# Altium schematic symbol library Regulator_Switching.SchLib: 1279 symbols (part 8 of 14)
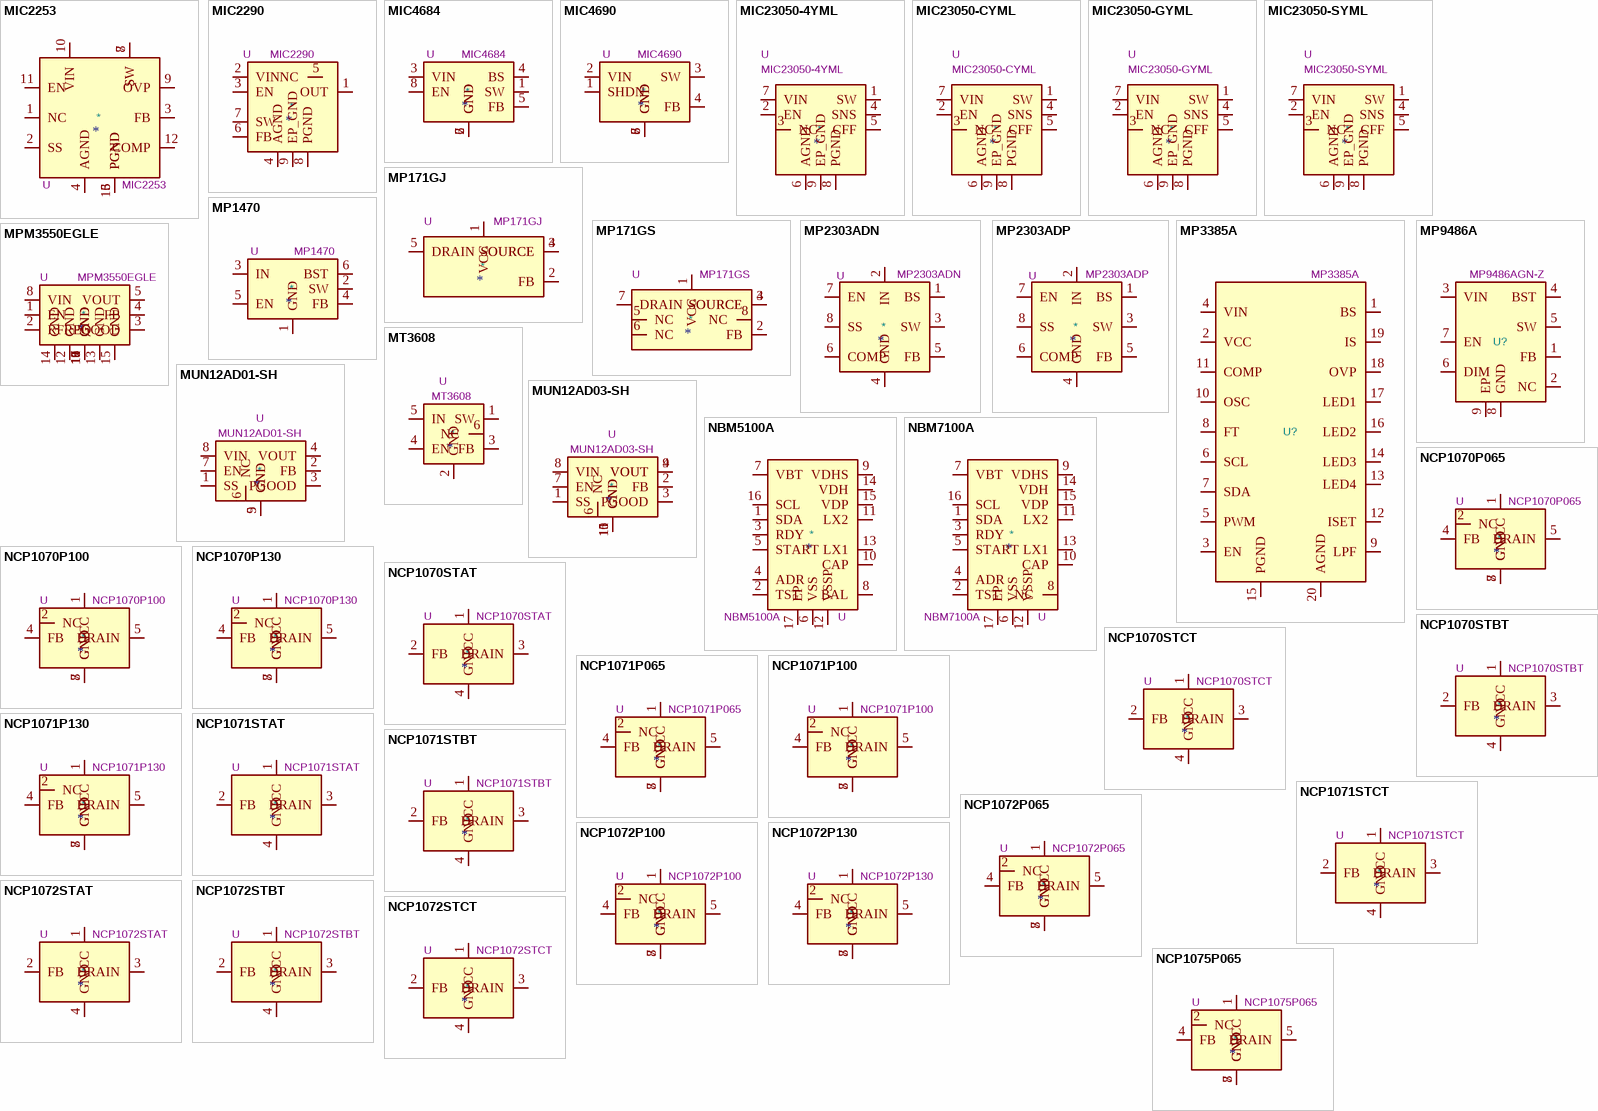
[diagram p39: symbols MIC2253 to NCP1075P065]

## NCP1072P130
designator *  value NCP1072P130  Reference: U
High-Voltage Switcher for Low Power Offline SMPS, 700V Vds, 19W/10W, 230V/85-265V, 130kHz, 11Ohm Rds(on), 250mA Ipk, DIP-7; ki_keywords: SMPS Converter; ki_fp_filters: DIP*N7*W7.62mm*; Footprint: Package_DIP:DIP-8-N7_W7.62mm; Datasheet: http://www.onsemi.com/pub/Collateral/NCP1070-D.PDF; Description_: High-Voltage Switcher for Low Power Offline SMPS, 700V Vds, 19W/10W, 230V/85-265V, 130kHz, 11Ohm Rds(on), 250mA Ipk, DIP-7
pins: 1 VCC, 2 NC, 3 GND, 4 FB, 5 DRAIN, 7 GND, 8 GND

## NCP1072STAT
designator *  value NCP1072STAT  Reference: U
High-Voltage Switcher for Low Power Offline SMPS, 700V Vds, 19W/10W, 230V/85-265V, 65kHz, 11Ohm Rds(on), 250mA Ipk, SOT-223; ki_keywords: SMPS Converter; ki_fp_filters: SOT?223*; Footprint: Package_TO_SOT_SMD:SOT-223; Datasheet: http://www.onsemi.com/pub/Collateral/NCP1070-D.PDF; Description_: High-Voltage Switcher for Low Power Offline SMPS, 700V Vds, 19W/10W, 230V/85-265V, 65kHz, 11Ohm Rds(on), 250mA Ipk, SOT-223
pins: 1 VCC, 2 FB, 3 DRAIN, 4 GND

## NCP1072STBT
designator *  value NCP1072STBT  Reference: U
High-Voltage Switcher for Low Power Offline SMPS, 700V Vds, 19W/10W, 230V/85-265V, 100kHz, 11Ohm Rds(on), 250mA Ipk, SOT-223; ki_keywords: SMPS Converter; ki_fp_filters: SOT?223*; Footprint: Package_TO_SOT_SMD:SOT-223; Datasheet: http://www.onsemi.com/pub/Collateral/NCP1070-D.PDF; Description_: High-Voltage Switcher for Low Power Offline SMPS, 700V Vds, 19W/10W, 230V/85-265V, 100kHz, 11Ohm Rds(on), 250mA Ipk, SOT-223
pins: 1 VCC, 2 FB, 3 DRAIN, 4 GND

## NCP1072STCT
designator *  value NCP1072STCT  Reference: U
High-Voltage Switcher for Low Power Offline SMPS, 700V Vds, 19W/10W, 230V/85-265V, 130kHz, 11Ohm Rds(on), 250mA Ipk, SOT-223; ki_keywords: SMPS Converter; ki_fp_filters: SOT?223*; Footprint: Package_TO_SOT_SMD:SOT-223; Datasheet: http://www.onsemi.com/pub/Collateral/NCP1070-D.PDF; Description_: High-Voltage Switcher for Low Power Offline SMPS, 700V Vds, 19W/10W, 230V/85-265V, 130kHz, 11Ohm Rds(on), 250mA Ipk, SOT-223
pins: 1 VCC, 2 FB, 3 DRAIN, 4 GND

## NCP1075P065
designator *  value NCP1075P065  Reference: U
High-Voltage Switcher for Low Power Offline SMPS, 700V Vds, 19W/10W, 230V/85-265V, 65kHz, 11Ohm Rds(on), 450mA Ipk, DIP-7; ki_keywords: SMPS Converter; ki_fp_filters: DIP*N7*W7.62mm*; Footprint: Package_DIP:DIP-8-N7_W7.62mm; Datasheet: http://www.onsemi.com/pub/Collateral/NCP1070-D.PDF; Description_: High-Voltage Switcher for Low Power Offline SMPS, 700V Vds, 19W/10W, 230V/85-265V, 65kHz, 11Ohm Rds(on), 450mA Ipk, DIP-7
pins: 1 VCC, 2 NC, 3 GND, 4 FB, 5 DRAIN, 7 GND, 8 GND

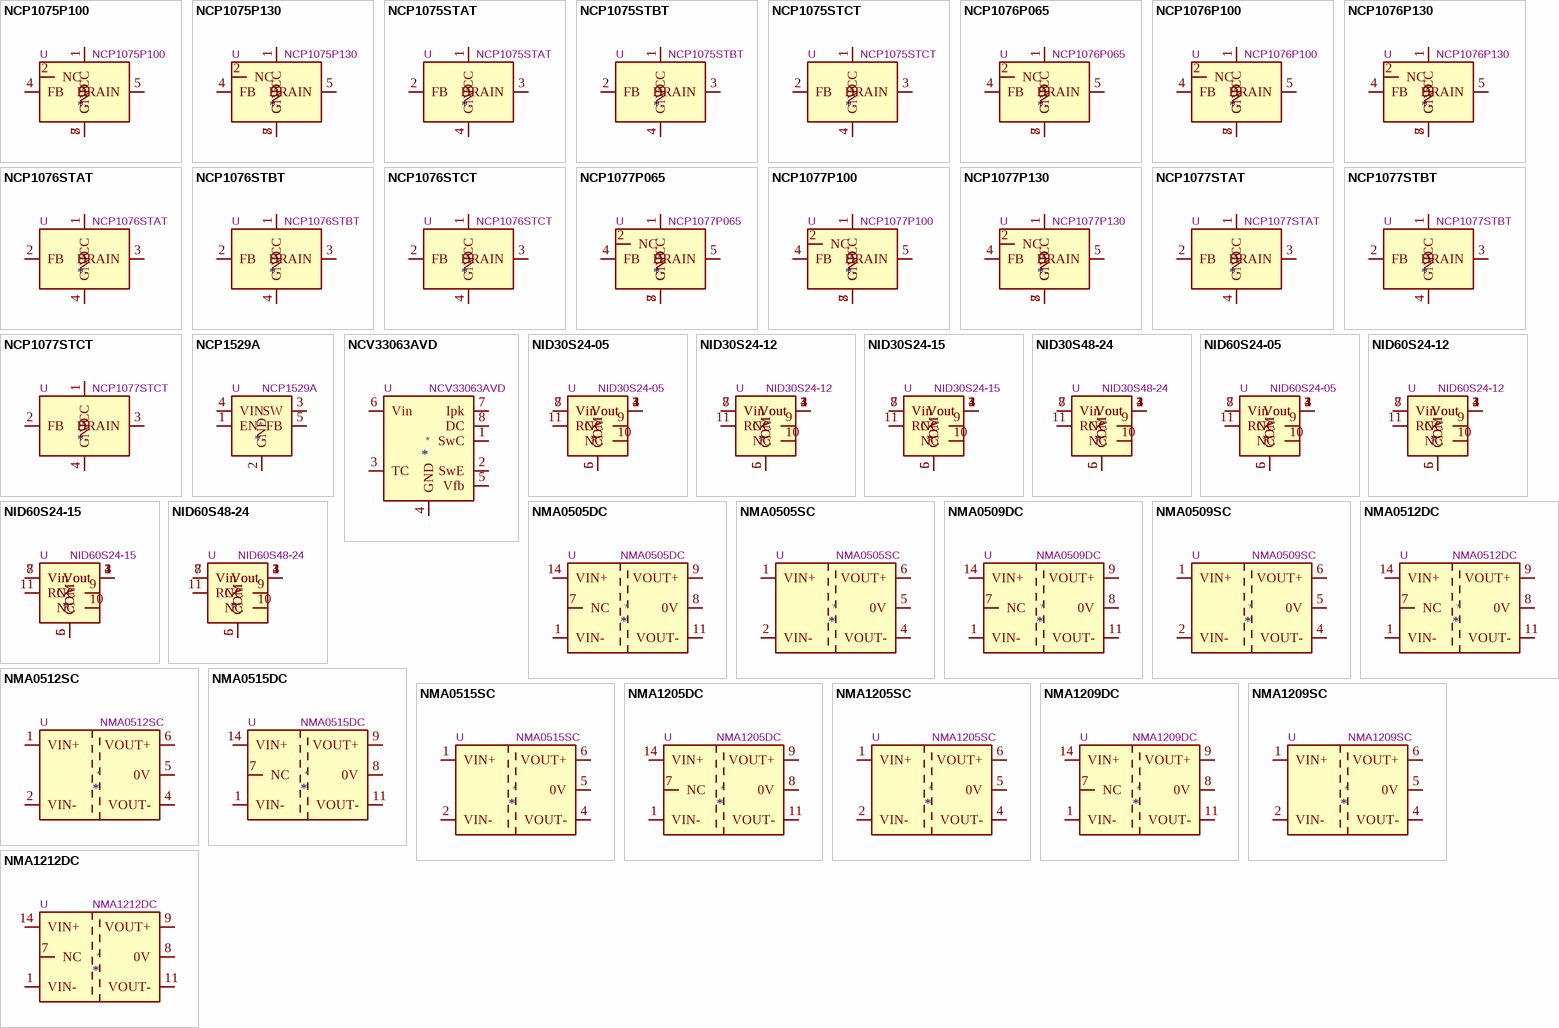
[diagram p17: symbols NCP1075P100 to NMA1212DC]

## NCP1075P100
designator *  value NCP1075P100  Reference: U
High-Voltage Switcher for Low Power Offline SMPS, 700V Vds, 19W/10W, 230V/85-265V, 100kHz, 11Ohm Rds(on), 450mA Ipk, DIP-7; ki_keywords: SMPS Converter; ki_fp_filters: DIP*N7*W7.62mm*; Footprint: Package_DIP:DIP-8-N7_W7.62mm; Datasheet: http://www.onsemi.com/pub/Collateral/NCP1070-D.PDF; Description_: High-Voltage Switcher for Low Power Offline SMPS, 700V Vds, 19W/10W, 230V/85-265V, 100kHz, 11Ohm Rds(on), 450mA Ipk, DIP-7
pins: 1 VCC, 2 NC, 3 GND, 4 FB, 5 DRAIN, 7 GND, 8 GND

## NCP1075P130
designator *  value NCP1075P130  Reference: U
High-Voltage Switcher for Low Power Offline SMPS, 700V Vds, 19W/10W, 230V/85-265V, 130kHz, 11Ohm Rds(on), 450mA Ipk, DIP-7; ki_keywords: SMPS Converter; ki_fp_filters: DIP*N7*W7.62mm*; Footprint: Package_DIP:DIP-8-N7_W7.62mm; Datasheet: http://www.onsemi.com/pub/Collateral/NCP1070-D.PDF; Description_: High-Voltage Switcher for Low Power Offline SMPS, 700V Vds, 19W/10W, 230V/85-265V, 130kHz, 11Ohm Rds(on), 450mA Ipk, DIP-7
pins: 1 VCC, 2 NC, 3 GND, 4 FB, 5 DRAIN, 7 GND, 8 GND

## NCP1075STAT
designator *  value NCP1075STAT  Reference: U
High-Voltage Switcher for Low Power Offline SMPS, 700V Vds, 19W/10W, 230V/85-265V, 65kHz, 11Ohm Rds(on), 450mA Ipk, SOT-223; ki_keywords: SMPS Converter; ki_fp_filters: SOT?223*; Footprint: Package_TO_SOT_SMD:SOT-223; Datasheet: http://www.onsemi.com/pub/Collateral/NCP1070-D.PDF; Description_: High-Voltage Switcher for Low Power Offline SMPS, 700V Vds, 19W/10W, 230V/85-265V, 65kHz, 11Ohm Rds(on), 450mA Ipk, SOT-223
pins: 1 VCC, 2 FB, 3 DRAIN, 4 GND

## NCP1075STBT
designator *  value NCP1075STBT  Reference: U
High-Voltage Switcher for Low Power Offline SMPS, 700V Vds, 19W/10W, 230V/85-265V, 100kHz, 11Ohm Rds(on), 450mA Ipk, SOT-223; ki_keywords: SMPS Converter; ki_fp_filters: SOT?223*; Footprint: Package_TO_SOT_SMD:SOT-223; Datasheet: http://www.onsemi.com/pub/Collateral/NCP1070-D.PDF; Description_: High-Voltage Switcher for Low Power Offline SMPS, 700V Vds, 19W/10W, 230V/85-265V, 100kHz, 11Ohm Rds(on), 450mA Ipk, SOT-223
pins: 1 VCC, 2 FB, 3 DRAIN, 4 GND

## NCP1075STCT
designator *  value NCP1075STCT  Reference: U
High-Voltage Switcher for Low Power Offline SMPS, 700V Vds, 19W/10W, 230V/85-265V, 130kHz, 11Ohm Rds(on), 450mA Ipk, SOT-223; ki_keywords: SMPS Converter; ki_fp_filters: SOT?223*; Footprint: Package_TO_SOT_SMD:SOT-223; Datasheet: http://www.onsemi.com/pub/Collateral/NCP1070-D.PDF; Description_: High-Voltage Switcher for Low Power Offline SMPS, 700V Vds, 19W/10W, 230V/85-265V, 130kHz, 11Ohm Rds(on), 450mA Ipk, SOT-223
pins: 1 VCC, 2 FB, 3 DRAIN, 4 GND

## NCP1076P065
designator *  value NCP1076P065  Reference: U
High-Voltage Switcher for Low Power Offline SMPS, 700V Vds, 25W/15W, 230V/85-265V, 65kHz, 4.7Ohm Rds(on), 650mA Ipk, DIP-7; ki_keywords: SMPS Converter; ki_fp_filters: DIP*N7*W7.62mm*; Footprint: Package_DIP:DIP-8-N7_W7.62mm; Datasheet: http://www.onsemi.com/pub/Collateral/NCP1070-D.PDF; Description_: High-Voltage Switcher for Low Power Offline SMPS, 700V Vds, 25W/15W, 230V/85-265V, 65kHz, 4.7Ohm Rds(on), 650mA Ipk, DIP-7
pins: 1 VCC, 2 NC, 3 GND, 4 FB, 5 DRAIN, 7 GND, 8 GND

## NCP1076P100
designator *  value NCP1076P100  Reference: U
High-Voltage Switcher for Low Power Offline SMPS, 700V Vds, 25W/15W, 230V/85-265V, 100kHz, 4.7Ohm Rds(on), 650mA Ipk, DIP-7; ki_keywords: SMPS Converter; ki_fp_filters: DIP*N7*W7.62mm*; Footprint: Package_DIP:DIP-8-N7_W7.62mm; Datasheet: http://www.onsemi.com/pub/Collateral/NCP1070-D.PDF; Description_: High-Voltage Switcher for Low Power Offline SMPS, 700V Vds, 25W/15W, 230V/85-265V, 100kHz, 4.7Ohm Rds(on), 650mA Ipk, DIP-7
pins: 1 VCC, 2 NC, 3 GND, 4 FB, 5 DRAIN, 7 GND, 8 GND

## NCP1076P130
designator *  value NCP1076P130  Reference: U
High-Voltage Switcher for Low Power Offline SMPS, 700V Vds, 25W/15W, 230V/85-265V, 130kHz, 4.7Ohm Rds(on), 650mA Ipk, DIP-7; ki_keywords: SMPS Converter; ki_fp_filters: DIP*N7*W7.62mm*; Footprint: Package_DIP:DIP-8-N7_W7.62mm; Datasheet: http://www.onsemi.com/pub/Collateral/NCP1070-D.PDF; Description_: High-Voltage Switcher for Low Power Offline SMPS, 700V Vds, 25W/15W, 230V/85-265V, 130kHz, 4.7Ohm Rds(on), 650mA Ipk, DIP-7
pins: 1 VCC, 2 NC, 3 GND, 4 FB, 5 DRAIN, 7 GND, 8 GND

## NCP1076STAT
designator *  value NCP1076STAT  Reference: U
High-Voltage Switcher for Low Power Offline SMPS, 700V Vds, 25W/15W, 230V/85-265V, 65kHz, 4.7Ohm Rds(on), 650mA Ipk, SOT-223; ki_keywords: SMPS Converter; ki_fp_filters: SOT?223*; Footprint: Package_TO_SOT_SMD:SOT-223; Datasheet: http://www.onsemi.com/pub/Collateral/NCP1070-D.PDF; Description_: High-Voltage Switcher for Low Power Offline SMPS, 700V Vds, 25W/15W, 230V/85-265V, 65kHz, 4.7Ohm Rds(on), 650mA Ipk, SOT-223
pins: 1 VCC, 2 FB, 3 DRAIN, 4 GND

## NCP1076STBT
designator *  value NCP1076STBT  Reference: U
High-Voltage Switcher for Low Power Offline SMPS, 700V Vds, 25W/15W, 230V/85-265V, 100kHz, 4.7Ohm Rds(on), 650mA Ipk, SOT-223; ki_keywords: SMPS Converter; ki_fp_filters: SOT?223*; Footprint: Package_TO_SOT_SMD:SOT-223; Datasheet: http://www.onsemi.com/pub/Collateral/NCP1070-D.PDF; Description_: High-Voltage Switcher for Low Power Offline SMPS, 700V Vds, 25W/15W, 230V/85-265V, 100kHz, 4.7Ohm Rds(on), 650mA Ipk, SOT-223
pins: 1 VCC, 2 FB, 3 DRAIN, 4 GND

## NCP1076STCT
designator *  value NCP1076STCT  Reference: U
High-Voltage Switcher for Low Power Offline SMPS, 700V Vds, 25W/15W, 230V/85-265V, 130kHz, 4.7Ohm Rds(on), 650mA Ipk, SOT-223; ki_keywords: SMPS Converter; ki_fp_filters: SOT?223*; Footprint: Package_TO_SOT_SMD:SOT-223; Datasheet: http://www.onsemi.com/pub/Collateral/NCP1070-D.PDF; Description_: High-Voltage Switcher for Low Power Offline SMPS, 700V Vds, 25W/15W, 230V/85-265V, 130kHz, 4.7Ohm Rds(on), 650mA Ipk, SOT-223
pins: 1 VCC, 2 FB, 3 DRAIN, 4 GND

## NCP1077P065
designator *  value NCP1077P065  Reference: U
High-Voltage Switcher for Low Power Offline SMPS, 700V Vds, 25W/15W, 230V/85-265V, 65kHz, 4.7Ohm Rds(on), 800mA Ipk, DIP-7; ki_keywords: SMPS Converter; ki_fp_filters: DIP*N7*W7.62mm*; Footprint: Package_DIP:DIP-8-N7_W7.62mm; Datasheet: http://www.onsemi.com/pub/Collateral/NCP1070-D.PDF; Description_: High-Voltage Switcher for Low Power Offline SMPS, 700V Vds, 25W/15W, 230V/85-265V, 65kHz, 4.7Ohm Rds(on), 800mA Ipk, DIP-7
pins: 1 VCC, 2 NC, 3 GND, 4 FB, 5 DRAIN, 7 GND, 8 GND

## NCP1077P100
designator *  value NCP1077P100  Reference: U
High-Voltage Switcher for Low Power Offline SMPS, 700V Vds, 25W/15W, 230V/85-265V, 100kHz, 4.7Ohm Rds(on), 800mA Ipk, DIP-7; ki_keywords: SMPS Converter; ki_fp_filters: DIP*N7*W7.62mm*; Footprint: Package_DIP:DIP-8-N7_W7.62mm; Datasheet: http://www.onsemi.com/pub/Collateral/NCP1070-D.PDF; Description_: High-Voltage Switcher for Low Power Offline SMPS, 700V Vds, 25W/15W, 230V/85-265V, 100kHz, 4.7Ohm Rds(on), 800mA Ipk, DIP-7
pins: 1 VCC, 2 NC, 3 GND, 4 FB, 5 DRAIN, 7 GND, 8 GND

## NCP1077P130
designator *  value NCP1077P130  Reference: U
High-Voltage Switcher for Low Power Offline SMPS, 700V Vds, 25W/15W, 230V/85-265V, 130kHz, 4.7Ohm Rds(on), 800mA Ipk, DIP-7; ki_keywords: SMPS Converter; ki_fp_filters: DIP*N7*W7.62mm*; Footprint: Package_DIP:DIP-8-N7_W7.62mm; Datasheet: http://www.onsemi.com/pub/Collateral/NCP1070-D.PDF; Description_: High-Voltage Switcher for Low Power Offline SMPS, 700V Vds, 25W/15W, 230V/85-265V, 130kHz, 4.7Ohm Rds(on), 800mA Ipk, DIP-7
pins: 1 VCC, 2 NC, 3 GND, 4 FB, 5 DRAIN, 7 GND, 8 GND

## NCP1077STAT
designator *  value NCP1077STAT  Reference: U
High-Voltage Switcher for Low Power Offline SMPS, 700V Vds, 25W/15W, 230V/85-265V, 65kHz, 4.7Ohm Rds(on), 800mA Ipk, SOT-223; ki_keywords: SMPS Converter; ki_fp_filters: SOT?223*; Footprint: Package_TO_SOT_SMD:SOT-223; Datasheet: http://www.onsemi.com/pub/Collateral/NCP1070-D.PDF; Description_: High-Voltage Switcher for Low Power Offline SMPS, 700V Vds, 25W/15W, 230V/85-265V, 65kHz, 4.7Ohm Rds(on), 800mA Ipk, SOT-223
pins: 1 VCC, 2 FB, 3 DRAIN, 4 GND

## NCP1077STBT
designator *  value NCP1077STBT  Reference: U
High-Voltage Switcher for Low Power Offline SMPS, 700V Vds, 25W/15W, 230V/85-265V, 100kHz, 4.7Ohm Rds(on), 800mA Ipk, SOT-223; ki_keywords: SMPS Converter; ki_fp_filters: SOT?223*; Footprint: Package_TO_SOT_SMD:SOT-223; Datasheet: http://www.onsemi.com/pub/Collateral/NCP1070-D.PDF; Description_: High-Voltage Switcher for Low Power Offline SMPS, 700V Vds, 25W/15W, 230V/85-265V, 100kHz, 4.7Ohm Rds(on), 800mA Ipk, SOT-223
pins: 1 VCC, 2 FB, 3 DRAIN, 4 GND

## NCP1077STCT
designator *  value NCP1077STCT  Reference: U
High-Voltage Switcher for Low Power Offline SMPS, 700V Vds, 25W/15W, 230V/85-265V, 130kHz, 4.7Ohm Rds(on), 800mA Ipk, SOT-223; ki_keywords: SMPS Converter; ki_fp_filters: SOT?223*; Footprint: Package_TO_SOT_SMD:SOT-223; Datasheet: http://www.onsemi.com/pub/Collateral/NCP1070-D.PDF; Description_: High-Voltage Switcher for Low Power Offline SMPS, 700V Vds, 25W/15W, 230V/85-265V, 130kHz, 4.7Ohm Rds(on), 800mA Ipk, SOT-223
pins: 1 VCC, 2 FB, 3 DRAIN, 4 GND

## NCP1529A
designator *  value NCP1529A  Reference: U
1.7MHz, 1A, High Efficiency, Low Ripple, Adjustable Output Voltage Step-down Converter, SOT-23-5; ki_keywords: Step-Down Buck DC-DC Regulator Adjustable; ki_fp_filters: SOT?23*; Footprint: Package_TO_SOT_SMD:SOT-23-5; Datasheet: https://www.onsemi.com/pub/Collateral/NCP1529-D.PDF; Description_: 1.7MHz, 1A, High Efficiency, Low Ripple, Adjustable Output Voltage Step-down Converter, SOT-23-5
pins: 1 EN, 2 GND, 3 SW, 4 VIN, 5 FB

## NCV33063AVD
designator *  value NCV33063AVD  Reference: U
1.5A, step-up/down/inverting switching regulator, 3-40V Vin, 100kHz, SO-8; ki_keywords: smps buck boost inverting; ki_fp_filters: SOIC*3.9x4.9mm*P1.27mm*; Footprint: Package_SO:SOIC-8_3.9x4.9mm_P1.27mm; Datasheet: http://www.onsemi.com/pub_link/Collateral/MC34063A-D.PDF; Description_: 1.5A, step-up/down/inverting switching regulator, 3-40V Vin, 100kHz, SO-8
pins: 1 SwC, 2 SwE, 3 TC, 4 GND, 5 Vfb, 6 Vin, 7 Ipk, 8 DC

## NID30S24-05
designator *  value NID30S24-05  Reference: U
2.5A/12.5W Step Down Converter Module, fixed 5V Output Voltage, 250kHz, 20-53V Input Voltage; ki_keywords: Step-Down Converter Module DC/DC; ki_fp_filters: Converter*DCDC*MeanWell*NID30*THT*; Footprint: Converter_DCDC:Converter_DCDC_MeanWell_NID30_THT; Datasheet: http://www.meanwell.com/webapp/product/search.aspx?prod=nid30; Description_: 2.5A/12.5W Step Down Converter Module, fixed 5V Output Voltage, 250kHz, 20-53V Input Voltage
pins: 1 Vout, 2 Vout, 3 Vout, 4 Vout, 5 COM, 6 COM, 7 Vin, 8 Vin, 9 NC, 10 NC, 11 RC

## NID30S24-12
designator *  value NID30S24-12  Reference: U
2.5A/30W Step Down Converter Module, fixed 12V Output Voltage, 250kHz, 20-53V Input Voltage; ki_keywords: Step-Down Converter Module DC/DC; ki_fp_filters: Converter*DCDC*MeanWell*NID30*THT*; Footprint: Converter_DCDC:Converter_DCDC_MeanWell_NID30_THT; Datasheet: http://www.meanwell.com/webapp/product/search.aspx?prod=nid30; Description_: 2.5A/30W Step Down Converter Module, fixed 12V Output Voltage, 250kHz, 20-53V Input Voltage
pins: 1 Vout, 2 Vout, 3 Vout, 4 Vout, 5 COM, 6 COM, 7 Vin, 8 Vin, 9 NC, 10 NC, 11 RC

## NID30S24-15
designator *  value NID30S24-15  Reference: U
2.5A/30W Step Down Converter Module, fixed 15V Output Voltage, 250kHz, 20-53V Input Voltage; ki_keywords: Step-Down Converter Module DC/DC; ki_fp_filters: Converter*DCDC*MeanWell*NID30*THT*; Footprint: Converter_DCDC:Converter_DCDC_MeanWell_NID30_THT; Datasheet: http://www.meanwell.com/webapp/product/search.aspx?prod=nid30; Description_: 2.5A/30W Step Down Converter Module, fixed 15V Output Voltage, 250kHz, 20-53V Input Voltage
pins: 1 Vout, 2 Vout, 3 Vout, 4 Vout, 5 COM, 6 COM, 7 Vin, 8 Vin, 9 NC, 10 NC, 11 RC

## NID30S48-24
designator *  value NID30S48-24  Reference: U
1.25A/30W Step Down Converter Module, fixed 24V Output Voltage, 250kHz, 30-53V Input Voltage; ki_keywords: Step-Down Converter Module DC/DC; ki_fp_filters: Converter*DCDC*MeanWell*NID30*THT*; Footprint: Converter_DCDC:Converter_DCDC_MeanWell_NID30_THT; Datasheet: http://www.meanwell.com/webapp/product/search.aspx?prod=nid30; Description_: 1.25A/30W Step Down Converter Module, fixed 24V Output Voltage, 250kHz, 30-53V Input Voltage
pins: 1 Vout, 2 Vout, 3 Vout, 4 Vout, 5 COM, 6 COM, 7 Vin, 8 Vin, 9 NC, 10 NC, 11 RC

## NID60S24-05
designator *  value NID60S24-05  Reference: U
4A/20W Step Down Converter Module, fixed 5V Output Voltage, 250kHz, 20-53V Input Voltage; ki_keywords: Step-Down Converter Module DC/DC; ki_fp_filters: Converter*DCDC*MeanWell*NID60*; Footprint: Converter_DCDC:Converter_DCDC_MeanWell_NID60_THT; Datasheet: http://www.meanwell.com/78ddf876-a86c-4a52-8a41-4ee24dd9913d; Description_: 4A/20W Step Down Converter Module, fixed 5V Output Voltage, 250kHz, 20-53V Input Voltage
pins: 1 Vout, 2 Vout, 3 Vout, 4 Vout, 5 COM, 6 COM, 7 Vin, 8 Vin, 9 NC, 10 NC, 11 RC

## NID60S24-12
designator *  value NID60S24-12  Reference: U
4A/48W Step Down Converter Module, fixed 12V Output Voltage, 250kHz, 20-53V Input Voltage; ki_keywords: Step-Down Converter Module DC/DC; ki_fp_filters: Converter*DCDC*MeanWell*NID60*; Footprint: Converter_DCDC:Converter_DCDC_MeanWell_NID60_THT; Datasheet: http://www.meanwell.com/78ddf876-a86c-4a52-8a41-4ee24dd9913d; Description_: 4A/48W Step Down Converter Module, fixed 12V Output Voltage, 250kHz, 20-53V Input Voltage
pins: 1 Vout, 2 Vout, 3 Vout, 4 Vout, 5 COM, 6 COM, 7 Vin, 8 Vin, 9 NC, 10 NC, 11 RC

## NID60S24-15
designator *  value NID60S24-15  Reference: U
4A/60W Step Down Converter Module, fixed 15V Output Voltage, 250kHz, 20-53V Input Voltage; ki_keywords: Step-Down Converter Module DC/DC; ki_fp_filters: Converter*DCDC*MeanWell*NID60*; Footprint: Converter_DCDC:Converter_DCDC_MeanWell_NID60_THT; Datasheet: http://www.meanwell.com/78ddf876-a86c-4a52-8a41-4ee24dd9913d; Description_: 4A/60W Step Down Converter Module, fixed 15V Output Voltage, 250kHz, 20-53V Input Voltage
pins: 1 Vout, 2 Vout, 3 Vout, 4 Vout, 5 COM, 6 COM, 7 Vin, 8 Vin, 9 NC, 10 NC, 11 RC

## NID60S48-24
designator *  value NID60S48-24  Reference: U
2.5A/60W Step Down Converter Module, fixed 24V Output Voltage, 250kHz, 30-53V Input Voltage; ki_keywords: Step-Down Converter Module DC/DC; ki_fp_filters: Converter*DCDC*MeanWell*NID60*; Footprint: Converter_DCDC:Converter_DCDC_MeanWell_NID60_THT; Datasheet: http://www.meanwell.com/78ddf876-a86c-4a52-8a41-4ee24dd9913d; Description_: 2.5A/60W Step Down Converter Module, fixed 24V Output Voltage, 250kHz, 30-53V Input Voltage
pins: 1 Vout, 2 Vout, 3 Vout, 4 Vout, 5 COM, 6 COM, 7 Vin, 8 Vin, 9 NC, 10 NC, 11 RC

## NMA0505DC
designator *  value NMA0505DC  Reference: U
±100mA Isolated 1W Dual output DC/DC Converter, 5V Input Voltage, ±5V Output Voltage, DIP Package; ki_keywords: Murata isolated isolation dc-dc converter; ki_fp_filters: Converter*DCDC*Murata*NMAxxxxDC*; Footprint: Converter_DCDC:Converter_DCDC_Murata_NMAxxxxDC_THT; Datasheet: http://power.murata.com/data/power/ncl/kdc_nma.pdf; Description_: ±100mA Isolated 1W Dual output DC/DC Converter, 5V Input Voltage, ±5V Output Voltage, DIP Package
pins: 1 VIN-, 7 NC, 8 0V, 9 VOUT+, 11 VOUT-, 14 VIN+

## NMA0505SC
designator *  value NMA0505SC  Reference: U
±100mA Isolated 1W Dual output DC/DC Converter Module, 5V Input Voltage, ±5V Output Voltage, SIP3; ki_keywords: Murata isolated isolation dc-dc converter; ki_fp_filters: Converter*DCDC*Murata*NMAxxxxSC*; Footprint: Converter_DCDC:Converter_DCDC_Murata_NMAxxxxSC_THT; Datasheet: http://power.murata.com/data/power/ncl/kdc_nma.pdf; Description_: ±100mA Isolated 1W Dual output DC/DC Converter Module, 5V Input Voltage, ±5V Output Voltage, SIP3
pins: 1 VIN+, 2 VIN-, 4 VOUT-, 5 0V, 6 VOUT+

## NMA0509DC
designator *  value NMA0509DC  Reference: U
±55mA Isolated 1W Dual output DC/DC Converter Module, 5V Input Voltage, ±9V Output Voltage, DIP Package; ki_keywords: Murata isolated isolation dc-dc converter; ki_fp_filters: Converter*DCDC*Murata*NMAxxxxDC*; Footprint: Converter_DCDC:Converter_DCDC_Murata_NMAxxxxDC_THT; Datasheet: http://power.murata.com/data/power/ncl/kdc_nma.pdf; Description_: ±55mA Isolated 1W Dual output DC/DC Converter Module, 5V Input Voltage, ±9V Output Voltage, DIP Package
pins: 1 VIN-, 7 NC, 8 0V, 9 VOUT+, 11 VOUT-, 14 VIN+

## NMA0509SC
designator *  value NMA0509SC  Reference: U
±55mA Isolated 1W Dual output DC/DC Converter Module, 5V Input Voltage, ±9V Output Voltage, SIP3; ki_keywords: Murata isolated isolation dc-dc converter; ki_fp_filters: Converter*DCDC*Murata*NMAxxxxSC*; Footprint: Converter_DCDC:Converter_DCDC_Murata_NMAxxxxSC_THT; Datasheet: http://power.murata.com/data/power/ncl/kdc_nma.pdf; Description_: ±55mA Isolated 1W Dual output DC/DC Converter Module, 5V Input Voltage, ±9V Output Voltage, SIP3
pins: 1 VIN+, 2 VIN-, 4 VOUT-, 5 0V, 6 VOUT+

## NMA0512DC
designator *  value NMA0512DC  Reference: U
±42mA Isolated 1W Dual output DC/DC Converter Module, 5V Input Voltage, ±12V Output Voltage, DIP Package; ki_keywords: Murata isolated isolation dc-dc converter; ki_fp_filters: Converter*DCDC*Murata*NMAxxxxDC*; Footprint: Converter_DCDC:Converter_DCDC_Murata_NMAxxxxDC_THT; Datasheet: http://power.murata.com/data/power/ncl/kdc_nma.pdf; Description_: ±42mA Isolated 1W Dual output DC/DC Converter Module, 5V Input Voltage, ±12V Output Voltage, DIP Package
pins: 1 VIN-, 7 NC, 8 0V, 9 VOUT+, 11 VOUT-, 14 VIN+

## NMA0512SC
designator *  value NMA0512SC  Reference: U
±42mA Isolated 1W Dual output DC/DC Converter Module, 5V Input Voltage, ±12V Output Voltage, SIP3; ki_keywords: Murata isolated isolation dc-dc converter; ki_fp_filters: Converter*DCDC*Murata*NMAxxxxSC*; Footprint: Converter_DCDC:Converter_DCDC_Murata_NMAxxxxSC_THT; Datasheet: http://power.murata.com/data/power/ncl/kdc_nma.pdf; Description_: ±42mA Isolated 1W Dual output DC/DC Converter Module, 5V Input Voltage, ±12V Output Voltage, SIP3
pins: 1 VIN+, 2 VIN-, 4 VOUT-, 5 0V, 6 VOUT+

## NMA0515DC
designator *  value NMA0515DC  Reference: U
±33mA Isolated 1W Dual output DC/DC Converter Module, 5V Input Voltage, ±15V Output Voltage, DIP Package; ki_keywords: Murata isolated isolation dc-dc converter; ki_fp_filters: Converter*DCDC*Murata*NMAxxxxDC*; Footprint: Converter_DCDC:Converter_DCDC_Murata_NMAxxxxDC_THT; Datasheet: http://power.murata.com/data/power/ncl/kdc_nma.pdf; Description_: ±33mA Isolated 1W Dual output DC/DC Converter Module, 5V Input Voltage, ±15V Output Voltage, DIP Package
pins: 1 VIN-, 7 NC, 8 0V, 9 VOUT+, 11 VOUT-, 14 VIN+

## NMA0515SC
designator *  value NMA0515SC  Reference: U
±33mA Isolated 1W Dual output DC/DC Converter Module, 5V Input Voltage, ±15V Output Voltage, SIP3; ki_keywords: Murata isolated isolation dc-dc converter; ki_fp_filters: Converter*DCDC*Murata*NMAxxxxSC*; Footprint: Converter_DCDC:Converter_DCDC_Murata_NMAxxxxSC_THT; Datasheet: http://power.murata.com/data/power/ncl/kdc_nma.pdf; Description_: ±33mA Isolated 1W Dual output DC/DC Converter Module, 5V Input Voltage, ±15V Output Voltage, SIP3
pins: 1 VIN+, 2 VIN-, 4 VOUT-, 5 0V, 6 VOUT+

## NMA1205DC
designator *  value NMA1205DC  Reference: U
±100mA Isolated 1W Dual output DC/DC Converter Module, 12V Input Voltage, ±5V Output Voltage, DIP Package; ki_keywords: Murata isolated isolation dc-dc converter; ki_fp_filters: Converter*DCDC*Murata*NMAxxxxDC*; Footprint: Converter_DCDC:Converter_DCDC_Murata_NMAxxxxDC_THT; Datasheet: http://power.murata.com/data/power/ncl/kdc_nma.pdf; Description_: ±100mA Isolated 1W Dual output DC/DC Converter Module, 12V Input Voltage, ±5V Output Voltage, DIP Package
pins: 1 VIN-, 7 NC, 8 0V, 9 VOUT+, 11 VOUT-, 14 VIN+

## NMA1205SC
designator *  value NMA1205SC  Reference: U
±100mA Isolated 1W Dual output DC/DC Converter Module, 12V Input Voltage, ±5V Output Voltage, SIP3; ki_keywords: Murata isolated isolation dc-dc converter; ki_fp_filters: Converter*DCDC*Murata*NMAxxxxSC*; Footprint: Converter_DCDC:Converter_DCDC_Murata_NMAxxxxSC_THT; Datasheet: http://power.murata.com/data/power/ncl/kdc_nma.pdf; Description_: ±100mA Isolated 1W Dual output DC/DC Converter Module, 12V Input Voltage, ±5V Output Voltage, SIP3
pins: 1 VIN+, 2 VIN-, 4 VOUT-, 5 0V, 6 VOUT+

## NMA1209DC
designator *  value NMA1209DC  Reference: U
±55mA Isolated 1W Dual output DC/DC Converter Module, 12V Input Voltage, ±9V Output Voltage, DIP Package; ki_keywords: Murata isolated isolation dc-dc converter; ki_fp_filters: Converter*DCDC*Murata*NMAxxxxDC*; Footprint: Converter_DCDC:Converter_DCDC_Murata_NMAxxxxDC_THT; Datasheet: http://power.murata.com/data/power/ncl/kdc_nma.pdf; Description_: ±55mA Isolated 1W Dual output DC/DC Converter Module, 12V Input Voltage, ±9V Output Voltage, DIP Package
pins: 1 VIN-, 7 NC, 8 0V, 9 VOUT+, 11 VOUT-, 14 VIN+

## NMA1209SC
designator *  value NMA1209SC  Reference: U
±55mA Isolated 1W Dual output DC/DC Converter Module, 12V Input Voltage, ±9V Output Voltage, SIP3; ki_keywords: Murata isolated isolation dc-dc converter; ki_fp_filters: Converter*DCDC*Murata*NMAxxxxSC*; Footprint: Converter_DCDC:Converter_DCDC_Murata_NMAxxxxSC_THT; Datasheet: http://power.murata.com/data/power/ncl/kdc_nma.pdf; Description_: ±55mA Isolated 1W Dual output DC/DC Converter Module, 12V Input Voltage, ±9V Output Voltage, SIP3
pins: 1 VIN+, 2 VIN-, 4 VOUT-, 5 0V, 6 VOUT+

## NMA1212DC
designator *  value NMA1212DC  Reference: U
±42mA Isolated 1W Dual output DC/DC Converter Module, 12V Input Voltage, ±12V Output Voltage, DIP Package; ki_keywords: Murata isolated isolation dc-dc converter; ki_fp_filters: Converter*DCDC*Murata*NMAxxxxDC*; Footprint: Converter_DCDC:Converter_DCDC_Murata_NMAxxxxDC_THT; Datasheet: http://power.murata.com/data/power/ncl/kdc_nma.pdf; Description_: ±42mA Isolated 1W Dual output DC/DC Converter Module, 12V Input Voltage, ±12V Output Voltage, DIP Package
pins: 1 VIN-, 7 NC, 8 0V, 9 VOUT+, 11 VOUT-, 14 VIN+

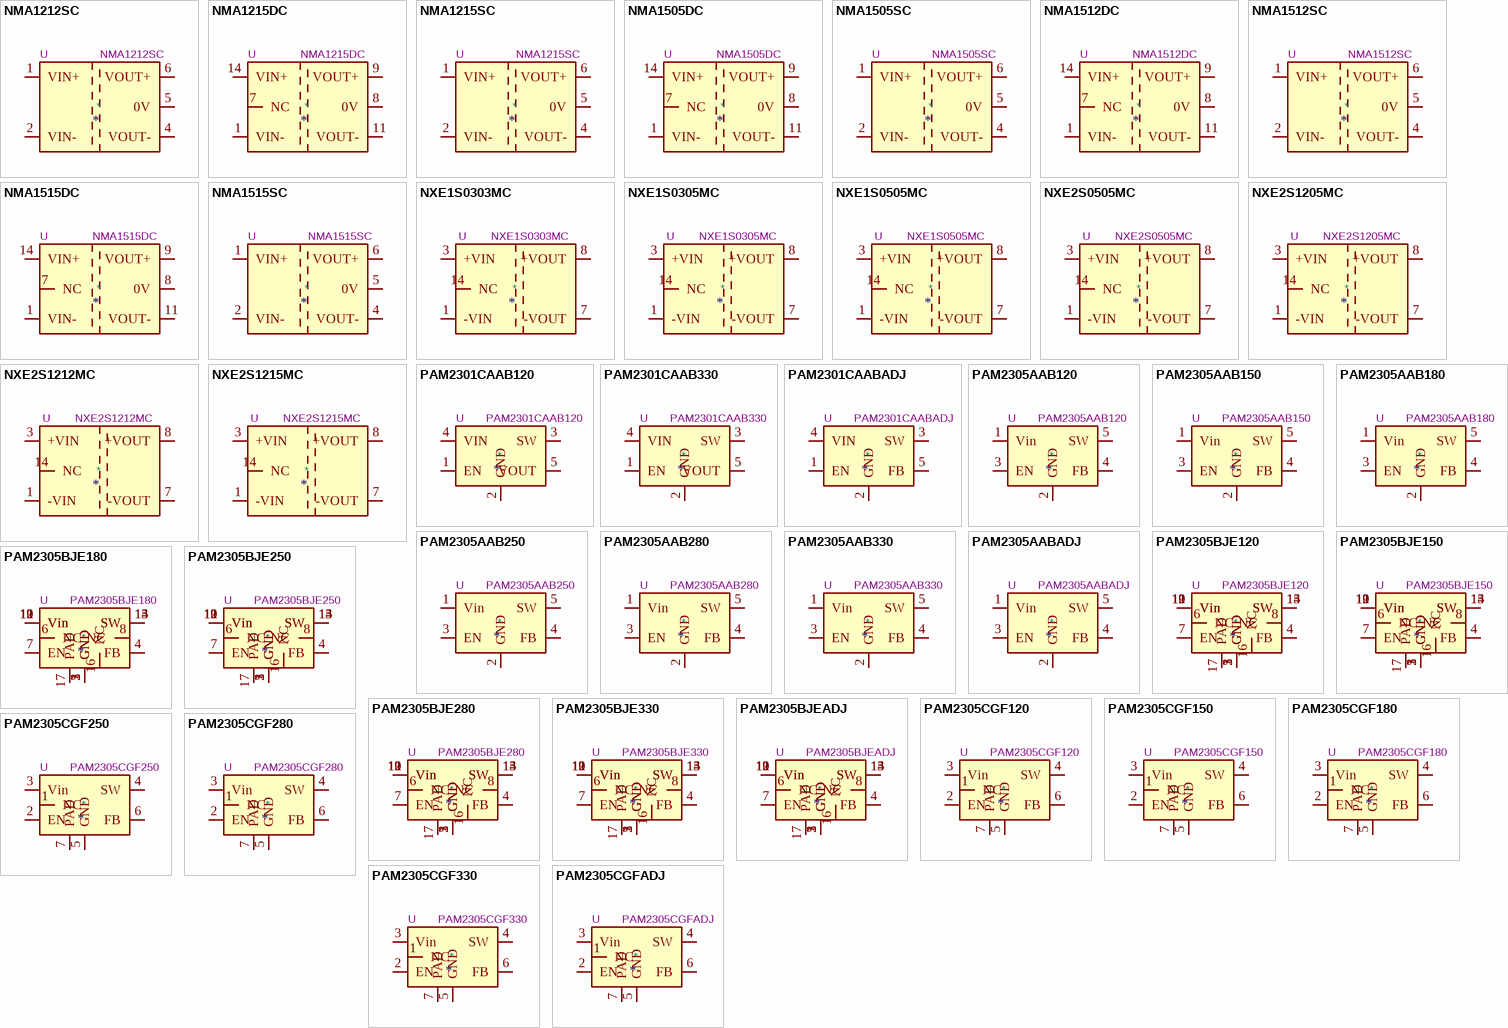
[diagram p18: symbols NMA1212SC to PAM2305CGFADJ]

## NMA1212SC
designator *  value NMA1212SC  Reference: U
±42mA Isolated 1W Dual output DC/DC Converter Module, 12V Input Voltage, ±12V Output Voltage, SIP3; ki_keywords: Murata isolated isolation dc-dc converter; ki_fp_filters: Converter*DCDC*Murata*NMAxxxxSC*; Footprint: Converter_DCDC:Converter_DCDC_Murata_NMAxxxxSC_THT; Datasheet: http://power.murata.com/data/power/ncl/kdc_nma.pdf; Description_: ±42mA Isolated 1W Dual output DC/DC Converter Module, 12V Input Voltage, ±12V Output Voltage, SIP3
pins: 1 VIN+, 2 VIN-, 4 VOUT-, 5 0V, 6 VOUT+

## NMA1215DC
designator *  value NMA1215DC  Reference: U
±33mA Isolated 1W Dual output DC/DC Converter Module, 12V Input Voltage, ±15V Output Voltage, DIP Package; ki_keywords: Murata isolated isolation dc-dc converter; ki_fp_filters: Converter*DCDC*Murata*NMAxxxxDC*; Footprint: Converter_DCDC:Converter_DCDC_Murata_NMAxxxxDC_THT; Datasheet: http://power.murata.com/data/power/ncl/kdc_nma.pdf; Description_: ±33mA Isolated 1W Dual output DC/DC Converter Module, 12V Input Voltage, ±15V Output Voltage, DIP Package
pins: 1 VIN-, 7 NC, 8 0V, 9 VOUT+, 11 VOUT-, 14 VIN+

## NMA1215SC
designator *  value NMA1215SC  Reference: U
±33mA Isolated 1W Dual output DC/DC Converter Module, 12V Input Voltage, ±15V Output Voltage, SIP3; ki_keywords: Murata isolated isolation dc-dc converter; ki_fp_filters: Converter*DCDC*Murata*NMAxxxxSC*; Footprint: Converter_DCDC:Converter_DCDC_Murata_NMAxxxxSC_THT; Datasheet: http://power.murata.com/data/power/ncl/kdc_nma.pdf; Description_: ±33mA Isolated 1W Dual output DC/DC Converter Module, 12V Input Voltage, ±15V Output Voltage, SIP3
pins: 1 VIN+, 2 VIN-, 4 VOUT-, 5 0V, 6 VOUT+

## NMA1505DC
designator *  value NMA1505DC  Reference: U
±100mA Isolated 1W Dual output DC/DC Converter Module, 15V Input Voltage, ±5V Output Voltage, DIP Package; ki_keywords: Murata isolated isolation dc-dc converter; ki_fp_filters: Converter*DCDC*Murata*NMAxxxxDC*; Footprint: Converter_DCDC:Converter_DCDC_Murata_NMAxxxxDC_THT; Datasheet: http://power.murata.com/data/power/ncl/kdc_nma.pdf; Description_: ±100mA Isolated 1W Dual output DC/DC Converter Module, 15V Input Voltage, ±5V Output Voltage, DIP Package
pins: 1 VIN-, 7 NC, 8 0V, 9 VOUT+, 11 VOUT-, 14 VIN+

## NMA1505SC
designator *  value NMA1505SC  Reference: U
±100mA Isolated 1W Dual output DC/DC Converter Module, 15V Input Voltage, ±5V Output Voltage, SIP3; ki_keywords: Murata isolated isolation dc-dc converter; ki_fp_filters: Converter*DCDC*Murata*NMAxxxxSC*; Footprint: Converter_DCDC:Converter_DCDC_Murata_NMAxxxxSC_THT; Datasheet: http://power.murata.com/data/power/ncl/kdc_nma.pdf; Description_: ±100mA Isolated 1W Dual output DC/DC Converter Module, 15V Input Voltage, ±5V Output Voltage, SIP3
pins: 1 VIN+, 2 VIN-, 4 VOUT-, 5 0V, 6 VOUT+

## NMA1512DC
designator *  value NMA1512DC  Reference: U
±42mA Isolated 1W Dual output DC/DC Converter Module, 15V Input Voltage, ±12V Output Voltage, DIP Package; ki_keywords: Murata isolated isolation dc-dc converter; ki_fp_filters: Converter*DCDC*Murata*NMAxxxxDC*; Footprint: Converter_DCDC:Converter_DCDC_Murata_NMAxxxxDC_THT; Datasheet: http://power.murata.com/data/power/ncl/kdc_nma.pdf; Description_: ±42mA Isolated 1W Dual output DC/DC Converter Module, 15V Input Voltage, ±12V Output Voltage, DIP Package
pins: 1 VIN-, 7 NC, 8 0V, 9 VOUT+, 11 VOUT-, 14 VIN+

## NMA1512SC
designator *  value NMA1512SC  Reference: U
±42mA Isolated 1W Dual output DC/DC Converter Module, 15V Input Voltage, ±12V Output Voltage, SIP3; ki_keywords: Murata isolated isolation dc-dc converter; ki_fp_filters: Converter*DCDC*Murata*NMAxxxxSC*; Footprint: Converter_DCDC:Converter_DCDC_Murata_NMAxxxxSC_THT; Datasheet: http://power.murata.com/data/power/ncl/kdc_nma.pdf; Description_: ±42mA Isolated 1W Dual output DC/DC Converter Module, 15V Input Voltage, ±12V Output Voltage, SIP3
pins: 1 VIN+, 2 VIN-, 4 VOUT-, 5 0V, 6 VOUT+

## NMA1515DC
designator *  value NMA1515DC  Reference: U
±33mA Isolated 1W Dual output DC/DC Converter Module, 5V Input Voltage, ±15V Output Voltage, DIP Package; ki_keywords: Murata isolated isolation dc-dc converter; ki_fp_filters: Converter*DCDC*Murata*NMAxxxxDC*; Footprint: Converter_DCDC:Converter_DCDC_Murata_NMAxxxxDC_THT; Datasheet: http://power.murata.com/data/power/ncl/kdc_nma.pdf; Description_: ±33mA Isolated 1W Dual output DC/DC Converter Module, 5V Input Voltage, ±15V Output Voltage, DIP Package
pins: 1 VIN-, 7 NC, 8 0V, 9 VOUT+, 11 VOUT-, 14 VIN+

## NMA1515SC
designator *  value NMA1515SC  Reference: U
±33mA Isolated 1W Dual output DC/DC Converter Module, 5V Input Voltage, ±15V Output Voltage, SIP3; ki_keywords: Murata isolated isolation dc-dc converter; ki_fp_filters: Converter*DCDC*Murata*NMAxxxxSC*; Footprint: Converter_DCDC:Converter_DCDC_Murata_NMAxxxxSC_THT; Datasheet: http://power.murata.com/data/power/ncl/kdc_nma.pdf; Description_: ±33mA Isolated 1W Dual output DC/DC Converter Module, 5V Input Voltage, ±15V Output Voltage, SIP3
pins: 1 VIN+, 2 VIN-, 4 VOUT-, 5 0V, 6 VOUT+

## NXE1S0303MC
designator *  value NXE1S0303MC  Reference: U
1W 3.3V to 3.3V 303mA DC-DC Converter with 3kV isolation; ki_keywords: isolated isolation dc-dc converter transformer; ki_fp_filters: Converter*DCDC*Murata*NXExSxxxxMC*; Footprint: Converter_DCDC:Converter_DCDC_Murata_NXExSxxxxMC_SMD; Datasheet: https://www.murata.com/products/productdata/8807031865374/kdc-nxe1.pdf; Description_: 1W 3.3V to 3.3V 303mA DC-DC Converter with 3kV isolation
pins: 1 -VIN, 3 +VIN, 7 -VOUT, 8 +VOUT, 14 NC

## NXE1S0305MC
designator *  value NXE1S0305MC  Reference: U
1W 3.3V to 5V 200mA DC-DC Converter with 3kV isolation; ki_keywords: isolated isolation dc-dc converter transformer; ki_fp_filters: Converter*DCDC*Murata*NXExSxxxxMC*; Footprint: Converter_DCDC:Converter_DCDC_Murata_NXExSxxxxMC_SMD; Datasheet: https://www.murata.com/products/productdata/8807031865374/kdc-nxe1.pdf; Description_: 1W 3.3V to 5V 200mA DC-DC Converter with 3kV isolation
pins: 1 -VIN, 3 +VIN, 7 -VOUT, 8 +VOUT, 14 NC

## NXE1S0505MC
designator *  value NXE1S0505MC  Reference: U
1W 5V to 5V 200mA DC-DC Converter with 3kV isolation; ki_keywords: isolated isolation dc-dc converter transformer; ki_fp_filters: Converter*DCDC*Murata*NXExSxxxxMC*; Footprint: Converter_DCDC:Converter_DCDC_Murata_NXExSxxxxMC_SMD; Datasheet: https://www.murata.com/products/productdata/8807031865374/kdc-nxe1.pdf; Description_: 1W 5V to 5V 200mA DC-DC Converter with 3kV isolation
pins: 1 -VIN, 3 +VIN, 7 -VOUT, 8 +VOUT, 14 NC

## NXE2S0505MC
designator *  value NXE2S0505MC  Reference: U
2W 5V to 5V 400mA DC-DC Converter with 3kV isolation; ki_keywords: isolated isolation dc-dc converter transformer; ki_fp_filters: Converter*DCDC*Murata*NXExSxxxxMC*; Footprint: Converter_DCDC:Converter_DCDC_Murata_NXExSxxxxMC_SMD; Datasheet: https://www.murata.com/products/productdata/8807031898142/kdc-nxe2.pdf; Description_: 2W 5V to 5V 400mA DC-DC Converter with 3kV isolation
pins: 1 -VIN, 3 +VIN, 7 -VOUT, 8 +VOUT, 14 NC

## NXE2S1205MC
designator *  value NXE2S1205MC  Reference: U
2W 12V to 5V 400mA DC-DC Converter with 3kV isolation; ki_keywords: isolated isolation dc-dc converter transformer; ki_fp_filters: Converter*DCDC*Murata*NXExSxxxxMC*; Footprint: Converter_DCDC:Converter_DCDC_Murata_NXExSxxxxMC_SMD; Datasheet: https://www.murata.com/products/productdata/8807031898142/kdc-nxe2.pdf; Description_: 2W 12V to 5V 400mA DC-DC Converter with 3kV isolation
pins: 1 -VIN, 3 +VIN, 7 -VOUT, 8 +VOUT, 14 NC

## NXE2S1212MC
designator *  value NXE2S1212MC  Reference: U
2W 12V to 12V 400mA DC-DC Converter with 3kV isolation; ki_keywords: isolated isolation dc-dc converter transformer; ki_fp_filters: Converter*DCDC*Murata*NXExSxxxxMC*; Footprint: Converter_DCDC:Converter_DCDC_Murata_NXExSxxxxMC_SMD; Datasheet: https://www.murata.com/products/productdata/8807031898142/kdc-nxe2.pdf; Description_: 2W 12V to 12V 400mA DC-DC Converter with 3kV isolation
pins: 1 -VIN, 3 +VIN, 7 -VOUT, 8 +VOUT, 14 NC

## NXE2S1215MC
designator *  value NXE2S1215MC  Reference: U
2W 12V to 15V 400mA DC-DC Converter with 3kV isolation; ki_keywords: isolated isolation dc-dc converter transformer; ki_fp_filters: Converter*DCDC*Murata*NXExSxxxxMC*; Footprint: Converter_DCDC:Converter_DCDC_Murata_NXExSxxxxMC_SMD; Datasheet: https://www.murata.com/products/productdata/8807031898142/kdc-nxe2.pdf; Description_: 2W 12V to 15V 400mA DC-DC Converter with 3kV isolation
pins: 1 -VIN, 3 +VIN, 7 -VOUT, 8 +VOUT, 14 NC

## PAM2301CAAB120
designator *  value PAM2301CAAB120  Reference: U
800mA, Step-Down DC/DC-Converter, 1.2V Fixed Output Voltage, 1.5MHz, TSOT-23-5; ki_keywords: Voltage regulator switching buck fixed output analog; ki_fp_filters: TSOT?23*; Footprint: Package_TO_SOT_SMD:TSOT-23-5; Datasheet: https://www.diodes.com/assets/Datasheets/products_inactive_data/PAM2301.pdf; Description_: 800mA, Step-Down DC/DC-Converter, 1.2V Fixed Output Voltage, 1.5MHz, TSOT-23-5
pins: 1 EN, 2 GND, 3 SW, 4 VIN, 5 VOUT

## PAM2301CAAB330
designator *  value PAM2301CAAB330  Reference: U
800mA, Step-Down DC/DC-Converter, 3.3V Fixed Output Voltage, 1.5MHz, TSOT-23-5; ki_keywords: Voltage regulator switching buck fixed output analog; ki_fp_filters: TSOT?23*; Footprint: Package_TO_SOT_SMD:TSOT-23-5; Datasheet: https://www.diodes.com/assets/Datasheets/products_inactive_data/PAM2301.pdf; Description_: 800mA, Step-Down DC/DC-Converter, 3.3V Fixed Output Voltage, 1.5MHz, TSOT-23-5
pins: 1 EN, 2 GND, 3 SW, 4 VIN, 5 VOUT

## PAM2301CAABADJ
designator *  value PAM2301CAABADJ  Reference: U
800mA, Step-Down DC/DC-Converter, Adjustable Output Voltage, 1.5MHz, TSOT-23-5; ki_keywords: Voltage regulator switching buck fixed output analog; ki_fp_filters: TSOT?23*; Footprint: Package_TO_SOT_SMD:TSOT-23-5; Datasheet: https://www.diodes.com/assets/Datasheets/products_inactive_data/PAM2301.pdf; Description_: 800mA, Step-Down DC/DC-Converter, Adjustable Output Voltage, 1.5MHz, TSOT-23-5
pins: 1 EN, 2 GND, 3 SW, 4 VIN, 5 FB

## PAM2305AAB120
designator *  value PAM2305AAB120  Reference: U
1A, Step-Down DC/DC-Converter, 1.2V Fixed Output Voltage, 1.5MHz, TSOT-23; ki_keywords: Voltage regulator switching buck fixed output analog; ki_fp_filters: TSOT?23*; Footprint: Package_TO_SOT_SMD:TSOT-23-5; Datasheet: https://www.diodes.com/assets/Datasheets/PAM2305.pdf; Description_: 1A, Step-Down DC/DC-Converter, 1.2V Fixed Output Voltage, 1.5MHz, TSOT-23
pins: 1 Vin, 2 GND, 3 EN, 4 FB, 5 SW

## PAM2305AAB150
designator *  value PAM2305AAB150  Reference: U
1A, Step-Down DC/DC-Converter, 1.5V Fixed Output Voltage, 1.5MHz, TSOT-23; ki_keywords: Voltage regulator switching buck fixed output analog; ki_fp_filters: TSOT?23*; Footprint: Package_TO_SOT_SMD:TSOT-23-5; Datasheet: https://www.diodes.com/assets/Datasheets/PAM2305.pdf; Description_: 1A, Step-Down DC/DC-Converter, 1.5V Fixed Output Voltage, 1.5MHz, TSOT-23
pins: 1 Vin, 2 GND, 3 EN, 4 FB, 5 SW

## PAM2305AAB180
designator *  value PAM2305AAB180  Reference: U
1A, Step-Down DC/DC-Converter, 1.8V Fixed Output Voltage, 1.5MHz, TSOT-23; ki_keywords: Voltage regulator switching buck fixed output analog; ki_fp_filters: TSOT?23*; Footprint: Package_TO_SOT_SMD:TSOT-23-5; Datasheet: https://www.diodes.com/assets/Datasheets/PAM2305.pdf; Description_: 1A, Step-Down DC/DC-Converter, 1.8V Fixed Output Voltage, 1.5MHz, TSOT-23
pins: 1 Vin, 2 GND, 3 EN, 4 FB, 5 SW

## PAM2305AAB250
designator *  value PAM2305AAB250  Reference: U
1A, Step-Down DC/DC-Converter, 2.5V Fixed Output Voltage, 1.5MHz, TSOT-23; ki_keywords: Voltage regulator switching buck fixed output analog; ki_fp_filters: TSOT?23*; Footprint: Package_TO_SOT_SMD:TSOT-23-5; Datasheet: https://www.diodes.com/assets/Datasheets/PAM2305.pdf; Description_: 1A, Step-Down DC/DC-Converter, 2.5V Fixed Output Voltage, 1.5MHz, TSOT-23
pins: 1 Vin, 2 GND, 3 EN, 4 FB, 5 SW

## PAM2305AAB280
designator *  value PAM2305AAB280  Reference: U
1A, Step-Down DC/DC-Converter, 2.8V Fixed Output Voltage, 1.5MHz, TSOT-23; ki_keywords: Voltage regulator switching buck fixed output analog; ki_fp_filters: TSOT?23*; Footprint: Package_TO_SOT_SMD:TSOT-23-5; Datasheet: https://www.diodes.com/assets/Datasheets/PAM2305.pdf; Description_: 1A, Step-Down DC/DC-Converter, 2.8V Fixed Output Voltage, 1.5MHz, TSOT-23
pins: 1 Vin, 2 GND, 3 EN, 4 FB, 5 SW

## PAM2305AAB330
designator *  value PAM2305AAB330  Reference: U
1A, Step-Down DC/DC-Converter, 3.3V Fixed Output Voltage, 1.5MHz, TSOT-23; ki_keywords: Voltage regulator switching buck fixed output analog; ki_fp_filters: TSOT?23*; Footprint: Package_TO_SOT_SMD:TSOT-23-5; Datasheet: https://www.diodes.com/assets/Datasheets/PAM2305.pdf; Description_: 1A, Step-Down DC/DC-Converter, 3.3V Fixed Output Voltage, 1.5MHz, TSOT-23
pins: 1 Vin, 2 GND, 3 EN, 4 FB, 5 SW

## PAM2305AABADJ
designator *  value PAM2305AABADJ  Reference: U
1A, Step-Down DC/DC-Converter, Adjustable Output Voltage, 1.5MHz, TSOT-23; ki_keywords: Voltage regulator switching buck fixed output analog; ki_fp_filters: TSOT?23*; Footprint: Package_TO_SOT_SMD:TSOT-23-5; Datasheet: https://www.diodes.com/assets/Datasheets/PAM2305.pdf; Description_: 1A, Step-Down DC/DC-Converter, Adjustable Output Voltage, 1.5MHz, TSOT-23
pins: 1 Vin, 2 GND, 3 EN, 4 FB, 5 SW

## PAM2305BJE120
designator *  value PAM2305BJE120  Reference: U
1A, Step-Down DC/DC-Converter, 1.2V Fixed Output Voltage, 1.5MHz, QFN-16; ki_keywords: Voltage regulator switching buck fixed output analog; ki_fp_filters: QFN*EP*3x3mm*P0.5mm*; Footprint: Package_DFN_QFN:QFN-16-1EP_3x3mm_P0.5mm_EP1.7x1.7mm; Datasheet: https://www.diodes.com/assets/Datasheets/PAM2305.pdf; Description_: 1A, Step-Down DC/DC-Converter, 1.2V Fixed Output Voltage, 1.5MHz, QFN-16
pins: 1 GND, 2 GND, 3 GND, 4 FB, 5 GND, 6 NC, 7 EN, 8 NC, 9 Vin, 10 Vin, 11 Vin, 12 Vin, 13 SW, 14 SW, 15 SW, 16 NC, 17 PAD

## PAM2305BJE150
designator *  value PAM2305BJE150  Reference: U
1A, Step-Down DC/DC-Converter, 1.5V Fixed Output Voltage, 1.5MHz, QFN-16; ki_keywords: Voltage regulator switching buck fixed output analog; ki_fp_filters: QFN*EP*3x3mm*P0.5mm*; Footprint: Package_DFN_QFN:QFN-16-1EP_3x3mm_P0.5mm_EP1.7x1.7mm; Datasheet: https://www.diodes.com/assets/Datasheets/PAM2305.pdf; Description_: 1A, Step-Down DC/DC-Converter, 1.5V Fixed Output Voltage, 1.5MHz, QFN-16
pins: 1 GND, 2 GND, 3 GND, 4 FB, 5 GND, 6 NC, 7 EN, 8 NC, 9 Vin, 10 Vin, 11 Vin, 12 Vin, 13 SW, 14 SW, 15 SW, 16 NC, 17 PAD

## PAM2305BJE180
designator *  value PAM2305BJE180  Reference: U
1A, Step-Down DC/DC-Converter, 1.8V Fixed Output Voltage, 1.5MHz, QFN-16; ki_keywords: Voltage regulator switching buck fixed output analog; ki_fp_filters: QFN*EP*3x3mm*P0.5mm*; Footprint: Package_DFN_QFN:QFN-16-1EP_3x3mm_P0.5mm_EP1.7x1.7mm; Datasheet: https://www.diodes.com/assets/Datasheets/PAM2305.pdf; Description_: 1A, Step-Down DC/DC-Converter, 1.8V Fixed Output Voltage, 1.5MHz, QFN-16
pins: 1 GND, 2 GND, 3 GND, 4 FB, 5 GND, 6 NC, 7 EN, 8 NC, 9 Vin, 10 Vin, 11 Vin, 12 Vin, 13 SW, 14 SW, 15 SW, 16 NC, 17 PAD

## PAM2305BJE250
designator *  value PAM2305BJE250  Reference: U
1A, Step-Down DC/DC-Converter, 2.5V Fixed Output Voltage, 1.5MHz, QFN-16; ki_keywords: Voltage regulator switching buck fixed output analog; ki_fp_filters: QFN*EP*3x3mm*P0.5mm*; Footprint: Package_DFN_QFN:QFN-16-1EP_3x3mm_P0.5mm_EP1.7x1.7mm; Datasheet: https://www.diodes.com/assets/Datasheets/PAM2305.pdf; Description_: 1A, Step-Down DC/DC-Converter, 2.5V Fixed Output Voltage, 1.5MHz, QFN-16
pins: 1 GND, 2 GND, 3 GND, 4 FB, 5 GND, 6 NC, 7 EN, 8 NC, 9 Vin, 10 Vin, 11 Vin, 12 Vin, 13 SW, 14 SW, 15 SW, 16 NC, 17 PAD

## PAM2305BJE280
designator *  value PAM2305BJE280  Reference: U
1A, Step-Down DC/DC-Converter, 2.8V Fixed Output Voltage, 1.5MHz, QFN-16; ki_keywords: Voltage regulator switching buck fixed output analog; ki_fp_filters: QFN*EP*3x3mm*P0.5mm*; Footprint: Package_DFN_QFN:QFN-16-1EP_3x3mm_P0.5mm_EP1.7x1.7mm; Datasheet: https://www.diodes.com/assets/Datasheets/PAM2305.pdf; Description_: 1A, Step-Down DC/DC-Converter, 2.8V Fixed Output Voltage, 1.5MHz, QFN-16
pins: 1 GND, 2 GND, 3 GND, 4 FB, 5 GND, 6 NC, 7 EN, 8 NC, 9 Vin, 10 Vin, 11 Vin, 12 Vin, 13 SW, 14 SW, 15 SW, 16 NC, 17 PAD

## PAM2305BJE330
designator *  value PAM2305BJE330  Reference: U
1A, Step-Down DC/DC-Converter, 3.3V Fixed Output Voltage, 1.5MHz, QFN-16; ki_keywords: Voltage regulator switching buck fixed output analog; ki_fp_filters: QFN*EP*3x3mm*P0.5mm*; Footprint: Package_DFN_QFN:QFN-16-1EP_3x3mm_P0.5mm_EP1.7x1.7mm; Datasheet: https://www.diodes.com/assets/Datasheets/PAM2305.pdf; Description_: 1A, Step-Down DC/DC-Converter, 3.3V Fixed Output Voltage, 1.5MHz, QFN-16
pins: 1 GND, 2 GND, 3 GND, 4 FB, 5 GND, 6 NC, 7 EN, 8 NC, 9 Vin, 10 Vin, 11 Vin, 12 Vin, 13 SW, 14 SW, 15 SW, 16 NC, 17 PAD

## PAM2305BJEADJ
designator *  value PAM2305BJEADJ  Reference: U
1A, Step-Down DC/DC-Converter, Adjustable Output Voltage, 1.5MHz, QFN-16; ki_keywords: Voltage regulator switching buck fixed output analog; ki_fp_filters: QFN*EP*3x3mm*P0.5mm*; Footprint: Package_DFN_QFN:QFN-16-1EP_3x3mm_P0.5mm_EP1.7x1.7mm; Datasheet: https://www.diodes.com/assets/Datasheets/PAM2305.pdf; Description_: 1A, Step-Down DC/DC-Converter, Adjustable Output Voltage, 1.5MHz, QFN-16
pins: 1 GND, 2 GND, 3 GND, 4 FB, 5 GND, 6 NC, 7 EN, 8 NC, 9 Vin, 10 Vin, 11 Vin, 12 Vin, 13 SW, 14 SW, 15 SW, 16 NC, 17 PAD

## PAM2305CGF120
designator *  value PAM2305CGF120  Reference: U
1A, Step-Down DC/DC-Converter, 1.2V Fixed Output Voltage, 1.5MHz, DFN-6; ki_keywords: Voltage regulator switching buck fixed output analog; ki_fp_filters: DFN*EP*2x2mm*P0.65mm*; Footprint: Package_DFN_QFN:DFN-6-1EP_2x2mm_P0.65mm_EP1x1.6mm; Datasheet: https://www.diodes.com/assets/Datasheets/PAM2305.pdf; Description_: 1A, Step-Down DC/DC-Converter, 1.2V Fixed Output Voltage, 1.5MHz, DFN-6
pins: 1 NC, 2 EN, 3 Vin, 4 SW, 5 GND, 6 FB, 7 PAD

## PAM2305CGF150
designator *  value PAM2305CGF150  Reference: U
1A, Step-Down DC/DC-Converter, 1.5V Fixed Output Voltage, 1.5MHz, DFN-6; ki_keywords: Voltage regulator switching buck fixed output analog; ki_fp_filters: DFN*EP*2x2mm*P0.65mm*; Footprint: Package_DFN_QFN:DFN-6-1EP_2x2mm_P0.65mm_EP1x1.6mm; Datasheet: https://www.diodes.com/assets/Datasheets/PAM2305.pdf; Description_: 1A, Step-Down DC/DC-Converter, 1.5V Fixed Output Voltage, 1.5MHz, DFN-6
pins: 1 NC, 2 EN, 3 Vin, 4 SW, 5 GND, 6 FB, 7 PAD

## PAM2305CGF180
designator *  value PAM2305CGF180  Reference: U
1A, Step-Down DC/DC-Converter, 1.8V Fixed Output Voltage, 1.5MHz, DFN-6; ki_keywords: Voltage regulator switching buck fixed output analog; ki_fp_filters: DFN*EP*2x2mm*P0.65mm*; Footprint: Package_DFN_QFN:DFN-6-1EP_2x2mm_P0.65mm_EP1x1.6mm; Datasheet: https://www.diodes.com/assets/Datasheets/PAM2305.pdf; Description_: 1A, Step-Down DC/DC-Converter, 1.8V Fixed Output Voltage, 1.5MHz, DFN-6
pins: 1 NC, 2 EN, 3 Vin, 4 SW, 5 GND, 6 FB, 7 PAD

## PAM2305CGF250
designator *  value PAM2305CGF250  Reference: U
1A, Step-Down DC/DC-Converter, 2.5V Fixed Output Voltage, 1.5MHz, DFN-6; ki_keywords: Voltage regulator switching buck fixed output analog; ki_fp_filters: DFN*EP*2x2mm*P0.65mm*; Footprint: Package_DFN_QFN:DFN-6-1EP_2x2mm_P0.65mm_EP1x1.6mm; Datasheet: https://www.diodes.com/assets/Datasheets/PAM2305.pdf; Description_: 1A, Step-Down DC/DC-Converter, 2.5V Fixed Output Voltage, 1.5MHz, DFN-6
pins: 1 NC, 2 EN, 3 Vin, 4 SW, 5 GND, 6 FB, 7 PAD

## PAM2305CGF280
designator *  value PAM2305CGF280  Reference: U
1A, Step-Down DC/DC-Converter, 2.8V Fixed Output Voltage, 1.5MHz, DFN-6; ki_keywords: Voltage regulator switching buck fixed output analog; ki_fp_filters: DFN*EP*2x2mm*P0.65mm*; Footprint: Package_DFN_QFN:DFN-6-1EP_2x2mm_P0.65mm_EP1x1.6mm; Datasheet: https://www.diodes.com/assets/Datasheets/PAM2305.pdf; Description_: 1A, Step-Down DC/DC-Converter, 2.8V Fixed Output Voltage, 1.5MHz, DFN-6
pins: 1 NC, 2 EN, 3 Vin, 4 SW, 5 GND, 6 FB, 7 PAD

## PAM2305CGF330
designator *  value PAM2305CGF330  Reference: U
1A, Step-Down DC/DC-Converter, 3.3V Fixed Output Voltage, 1.5MHz, DFN-6; ki_keywords: Voltage regulator switching buck fixed output analog; ki_fp_filters: DFN*EP*2x2mm*P0.65mm*; Footprint: Package_DFN_QFN:DFN-6-1EP_2x2mm_P0.65mm_EP1x1.6mm; Datasheet: https://www.diodes.com/assets/Datasheets/PAM2305.pdf; Description_: 1A, Step-Down DC/DC-Converter, 3.3V Fixed Output Voltage, 1.5MHz, DFN-6
pins: 1 NC, 2 EN, 3 Vin, 4 SW, 5 GND, 6 FB, 7 PAD

## PAM2305CGFADJ
designator *  value PAM2305CGFADJ  Reference: U
1A, Step-Down DC/DC-Converter, Adjustable Output Voltage, 1.5MHz, DFN-6; ki_keywords: Voltage regulator switching buck fixed output analog; ki_fp_filters: DFN*EP*2x2mm*P0.65mm*; Footprint: Package_DFN_QFN:DFN-6-1EP_2x2mm_P0.65mm_EP1x1.6mm; Datasheet: https://www.diodes.com/assets/Datasheets/PAM2305.pdf; Description_: 1A, Step-Down DC/DC-Converter, Adjustable Output Voltage, 1.5MHz, DFN-6
pins: 1 NC, 2 EN, 3 Vin, 4 SW, 5 GND, 6 FB, 7 PAD

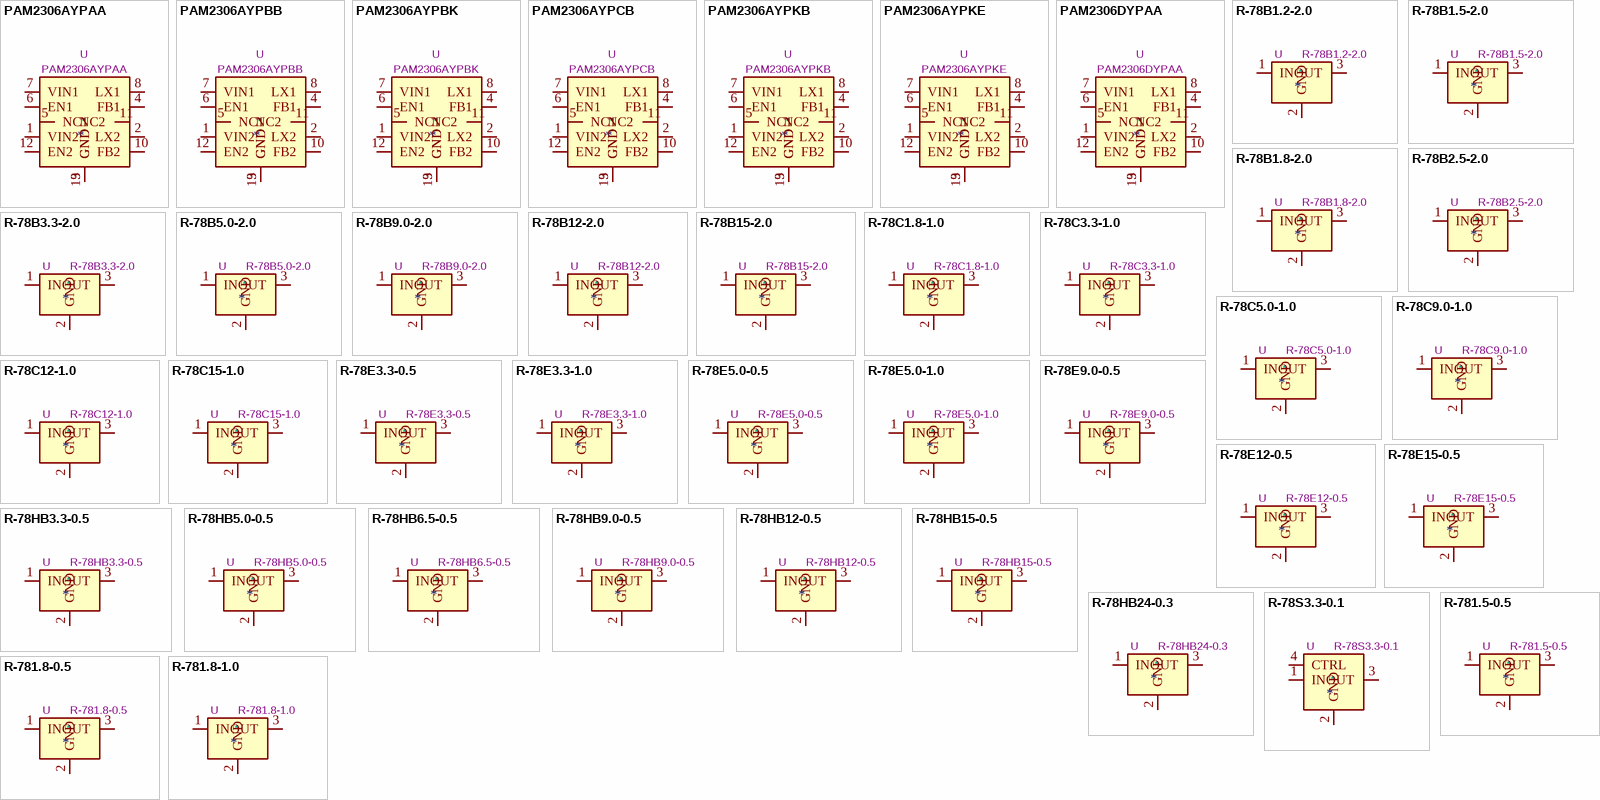
[diagram p19: symbols PAM2306AYPAA to R-781.8-1.0]

## PAM2306AYPAA
designator *  value PAM2306AYPAA  Reference: U
1A, Dual Step-Down DC/DC-Converter, Out1 ADJ, Out2 ADJ, 1.5MHz, W-DFN3x3; ki_keywords: STEP-DOWN Dual channel 1A Out1 ADJ, Out2 ADJ; ki_fp_filters: WDFN*3x3mm?P0.45mm*; Footprint: Package_DFN_QFN:WDFN-12-1EP_3x3mm_P0.45mm_EP1.7x2.5mm; Datasheet: https://www.diodes.com/assets/Datasheets/PAM2306.pdf; Description_: 1A, Dual Step-Down DC/DC-Converter, Out1 ADJ, Out2 ADJ, 1.5MHz, W-DFN3x3
pins: 1 VIN2, 2 LX2, 3 GND, 4 FB1, 5 NC1, 6 EN1, 7 VIN1, 8 LX1, 9 GND, 10 FB2, 11 NC2, 12 EN2, 13 GND

## PAM2306AYPBB
designator *  value PAM2306AYPBB  Reference: U
1A, Dual Step-Down DC/DC-Converter, Out1 1.2V, Out2 1.2V, 1.5MHz, W-DFN3x3; ki_keywords: STEP-DOWN Dual channel 1A Out1 1.2V, Out2 1.2V; ki_fp_filters: WDFN*3x3mm?P0.45mm*; Footprint: Package_DFN_QFN:WDFN-12-1EP_3x3mm_P0.45mm_EP1.7x2.5mm; Datasheet: https://www.diodes.com/assets/Datasheets/PAM2306.pdf; Description_: 1A, Dual Step-Down DC/DC-Converter, Out1 1.2V, Out2 1.2V, 1.5MHz, W-DFN3x3
pins: 1 VIN2, 2 LX2, 3 GND, 4 FB1, 5 NC1, 6 EN1, 7 VIN1, 8 LX1, 9 GND, 10 FB2, 11 NC2, 12 EN2, 13 GND

## PAM2306AYPBK
designator *  value PAM2306AYPBK  Reference: U
1A, Dual Step-Down DC/DC-Converter, Out1 1.2V, Out2 3.3V, 1.5MHz, W-DFN3x3; ki_keywords: STEP-DOWN Dual channel 1A Out1 1.5V, Out2 3.3V; ki_fp_filters: WDFN*3x3mm?P0.45mm*; Footprint: Package_DFN_QFN:WDFN-12-1EP_3x3mm_P0.45mm_EP1.7x2.5mm; Datasheet: https://www.diodes.com/assets/Datasheets/PAM2306.pdf; Description_: 1A, Dual Step-Down DC/DC-Converter, Out1 1.2V, Out2 3.3V, 1.5MHz, W-DFN3x3
pins: 1 VIN2, 2 LX2, 3 GND, 4 FB1, 5 NC1, 6 EN1, 7 VIN1, 8 LX1, 9 GND, 10 FB2, 11 NC2, 12 EN2, 13 GND

## PAM2306AYPCB
designator *  value PAM2306AYPCB  Reference: U
1A, Dual Step-Down DC/DC-Converter, Out1 1.5V, Out2 1.2V, 1.5MHz, W-DFN3x3; ki_keywords: STEP-DOWN Dual channel 1A Out1 1.5V, Out2 1.2V; ki_fp_filters: WDFN*3x3mm?P0.45mm*; Footprint: Package_DFN_QFN:WDFN-12-1EP_3x3mm_P0.45mm_EP1.7x2.5mm; Datasheet: https://www.diodes.com/assets/Datasheets/PAM2306.pdf; Description_: 1A, Dual Step-Down DC/DC-Converter, Out1 1.5V, Out2 1.2V, 1.5MHz, W-DFN3x3
pins: 1 VIN2, 2 LX2, 3 GND, 4 FB1, 5 NC1, 6 EN1, 7 VIN1, 8 LX1, 9 GND, 10 FB2, 11 NC2, 12 EN2, 13 GND

## PAM2306AYPKB
designator *  value PAM2306AYPKB  Reference: U
1A, Dual Step-Down DC/DC-Converter, Out1 3.3V, Out2 1.2V, 1.5MHz, W-DFN3x3; ki_keywords: STEP-DOWN Dual channel 1A Out1 3.3V, Out2 1.2V; ki_fp_filters: WDFN*3x3mm?P0.45mm*; Footprint: Package_DFN_QFN:WDFN-12-1EP_3x3mm_P0.45mm_EP1.7x2.5mm; Datasheet: https://www.diodes.com/assets/Datasheets/PAM2306.pdf; Description_: 1A, Dual Step-Down DC/DC-Converter, Out1 3.3V, Out2 1.2V, 1.5MHz, W-DFN3x3
pins: 1 VIN2, 2 LX2, 3 GND, 4 FB1, 5 NC1, 6 EN1, 7 VIN1, 8 LX1, 9 GND, 10 FB2, 11 NC2, 12 EN2, 13 GND

## PAM2306AYPKE
designator *  value PAM2306AYPKE  Reference: U
1A, Dual Step-Down DC/DC-Converter, Out1 3.3V, Out2 1.8V, 1.5MHz, W-DFN3x3; ki_keywords: STEP-DOWN Dual channel 1A Out1 3.3V, Out2 1.8V; ki_fp_filters: WDFN*3x3mm?P0.45mm*; Footprint: Package_DFN_QFN:WDFN-12-1EP_3x3mm_P0.45mm_EP1.7x2.5mm; Datasheet: https://www.diodes.com/assets/Datasheets/PAM2306.pdf; Description_: 1A, Dual Step-Down DC/DC-Converter, Out1 3.3V, Out2 1.8V, 1.5MHz, W-DFN3x3
pins: 1 VIN2, 2 LX2, 3 GND, 4 FB1, 5 NC1, 6 EN1, 7 VIN1, 8 LX1, 9 GND, 10 FB2, 11 NC2, 12 EN2, 13 GND

## PAM2306DYPAA
designator *  value PAM2306DYPAA  Reference: U
1A, Dual Step-Down DC/DC-Converter, Out1 ADJ, Out2 ADJ, 1.5MHz, W-DFN3x3; ki_keywords: STEP-DOWN Dual channel 1A Out1 ADJ, Out2 ADJ; ki_fp_filters: WDFN*3x3mm?P0.45mm*; Footprint: Package_DFN_QFN:WDFN-12-1EP_3x3mm_P0.45mm_EP1.7x2.5mm; Datasheet: https://www.diodes.com/assets/Datasheets/PAM2306D.pdf; Description_: 1A, Dual Step-Down DC/DC-Converter, Out1 ADJ, Out2 ADJ, 1.5MHz, W-DFN3x3
pins: 1 VIN2, 2 LX2, 3 GND, 4 FB1, 5 NC1, 6 EN1, 7 VIN1, 8 LX1, 9 GND, 10 FB2, 11 NC2, 12 EN2, 13 GND

## R-78B1.2-2.0
designator *  value R-78B1.2-2.0  Reference: U
2A Step-Down DC/DC-Regulator, 4.75-32V input, 1.2V fixed Output Voltage, LM78xx replacement, -40°C to +85°C, SIP3; ki_keywords: dc-dc recom Step-Down DC/DC-Regulator; ki_fp_filters: Converter*DCDC*RECOM*R*78B*2.0*; Footprint: Converter_DCDC:Converter_DCDC_RECOM_R-78B-2.0_THT; Datasheet: https://www.recom-power.com/pdf/Innoline/R-78Bxx-2.0.pdf; Description_: 2A Step-Down DC/DC-Regulator, 4.75-32V input, 1.2V fixed Output Voltage, LM78xx replacement, -40°C to +85°C, SIP3
pins: 1 IN, 2 GND, 3 OUT